# EAGLE library part LIWE_40_PIN (library 25cmsquare)
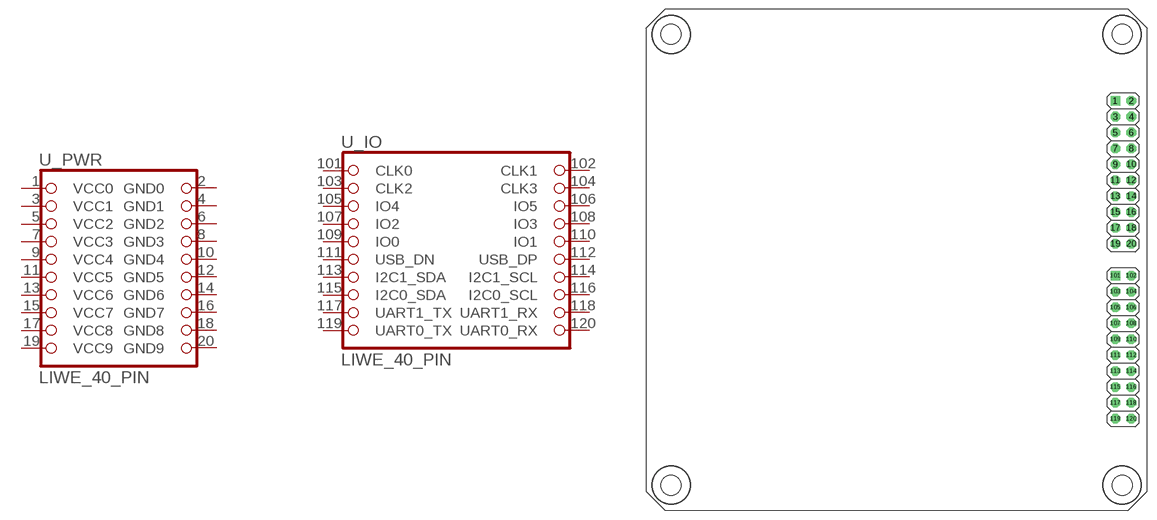
[diagram p17: symbol with the pads of LIWE_40_PIN_8X8; footprint LIWE_40_PIN_8X8]

Designator prefix -; gates _PWR=LIWE_40_PIN_PWR _IO=LIWE_40_PIN_IO

## LIWE_40_PIN  [LIWE_40_PIN_8X8]
1  _PWR:VCC0  pas
2  _PWR:GND0  pas
3  _PWR:VCC1  pas
4  _PWR:GND1  pas
5  _PWR:VCC2  pas
6  _PWR:GND2  pas
7  _PWR:VCC3  pas
8  _PWR:GND3  pas
9  _PWR:VCC4  pas
10  _PWR:GND4  pas
11  _PWR:VCC5  pas
12  _PWR:GND5  pas
13  _PWR:VCC6  pas
14  _PWR:GND6  pas
15  _PWR:VCC7  pas
16  _PWR:GND7  pas
17  _PWR:VCC8  pas
18  _PWR:GND8  pas
19  _PWR:VCC9  pas
20  _PWR:GND9  pas
101  _IO:CLK0  pas
102  _IO:CLK1  pas
103  _IO:CLK2  pas
104  _IO:CLK3  pas
105  _IO:IO4  pas
106  _IO:IO5  pas
107  _IO:IO2  pas
108  _IO:IO3  pas
109  _IO:IO0  pas
110  _IO:IO1  pas
111  _IO:USB_DN  pas
112  _IO:USB_DP  pas
113  _IO:I2C1_SDA  pas
114  _IO:I2C1_SCL  pas
115  _IO:I2C0_SDA  pas
116  _IO:I2C0_SCL  pas
117  _IO:UART1_TX  pas
118  _IO:UART1_RX  pas
119  _IO:UART0_TX  pas
120  _IO:UART0_RX  pas

## Footprint LIWE_40_PIN_8X8 (pad centres in mm)
drill 1.016 square: 1 74.93,65.405; 101 74.93,37.465
drill 1.016 octagon: 2 77.47,65.405; 3 74.93,62.865; 4 77.47,62.865; 5 74.93,60.325; 6 77.47,60.325; 7 74.93,57.785; 8 77.47,57.785; 9 74.93,55.245; 10 77.47,55.245; 11 74.93,52.705; 12 77.47,52.705; 13 74.93,50.165; 14 77.47,50.165; 15 74.93,47.625; 16 77.47,47.625; 17 74.93,45.085; 18 77.47,45.085; 19 74.93,42.545; 20 77.47,42.545; 102 77.47,37.465; 103 74.93,34.925; 104 77.47,34.925; 105 74.93,32.385; 106 77.47,32.385; 107 74.93,29.845; 108 77.47,29.845; 109 74.93,27.305; 110 77.47,27.305; 111 74.93,24.765; 112 77.47,24.765; 113 74.93,22.225; 114 77.47,22.225; 115 74.93,19.685; 116 77.47,19.685; 117 74.93,17.145; 118 77.47,17.145; 119 74.93,14.605; 120 77.47,14.605
hole 3.2 at 4,76
hole 3.2 at 4,4
hole 3.2 at 76,4
hole 3.2 at 76,76